# EAGLE library part 62201621121 (library Board-to-Board (rev18a))
WR-PHD 1.27mm Dual Pin Header, 16 Pins=>Code : Con_BTB_PHD_1.27_2_62201621121 <http://katalog.we-online.de/media/thumbs2/eican/thb_Con_BTB_PHD_1.27_2_6220xx21121_pf2.jpg> Details see: http://katalog.we-online.de/en/em/622_0xx_211_21 Created 2014-06-03, Karrer Zheng 2014 (C) Würth Elektronik
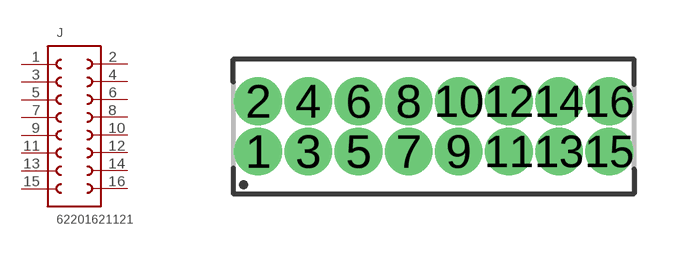
[diagram p274: symbol with the pads of 62201621121; footprint 62201621121]

Designator prefix J

## 62201621121  [62201621121]
1  1  pas
2  16  pas
3  2  pas
4  15  pas
5  3  pas
6  14  pas
7  4  pas
8  13  pas
9  5  pas
10  12  pas
11  6  pas
12  11  pas
13  7  pas
14  10  pas
15  8  pas
16  9  pas

## Footprint 62201621121 (pad centres in mm)
WR-PHD 1.27mm Dual Pin Header, 16 Pins
drill 0.7: 1 -4.445,-0.635; 2 -4.445,0.635; 3 -3.175,-0.635; 4 -3.175,0.635; 5 -1.905,-0.635; 6 -1.905,0.635; 7 -0.635,-0.635; 8 -0.635,0.635; 9 0.635,-0.635; 10 0.635,0.635; 11 1.905,-0.635; 12 1.905,0.635; 13 3.175,-0.635; 14 3.175,0.635; 15 4.445,-0.635; 16 4.445,0.635